# EAGLE library part LM311 (library ICs)
Analogue Comparator, Single, Differential, 1, 115 ns, 3.5V to 30V, TSSOP, 8 Pins
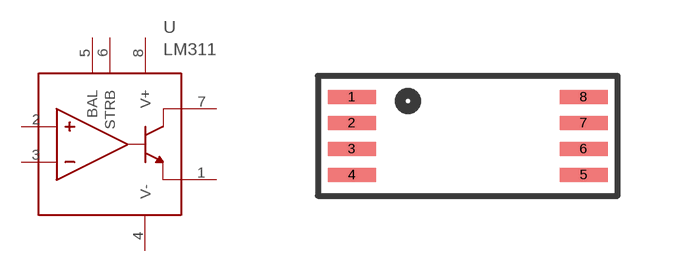
[diagram p157: symbol with the pads of TSSOP8_4.5MM; footprint TSSOP8_4.5MM]

Designator prefix U

## LM311PWR (FARNELL: 2463685; PRICE_PER: 0.339; VALUE: LM311)  [TSSOP8_4.5MM]
1  EMIT_OUT
2  +
3  -
4  V-
5  BAL
6  STRB
7  COL_OUT
8  V+

## Footprint TSSOP8_4.5MM (pad centres in mm)
smd 1.2 x 0.35: 1 -2.9,0.975; 2 -2.9,0.325; 3 -2.9,-0.325; 4 -2.9,-0.975; 5 2.9,-0.975; 6 2.9,-0.325; 7 2.9,0.325; 8 2.9,0.975